# EAGLE library part BTM-182 (library SparkFun-RF)
Rayson BTM-182 Bluetooth Module The BTM-182 is an easy to use Bluetooth SPP (Serial Port Protocol) module, designed for transparent wireless serial connection setup. This is a fully qualified Bluetooth V2.0+EDR (Enhanced Data Rate) 3Mbps modulation with complete 2.4GHz radio transceiver. It uses CSR Bluecore 04 external single chip Bluetooth system with CMOS technology and with AFH (Adaptive Frequency Hopping). SparkFun Products: Bluetooth DIP Module - Rayson BTM-182 <https://www.sparkfun.com/products/retired/9977> (WRL-9977)
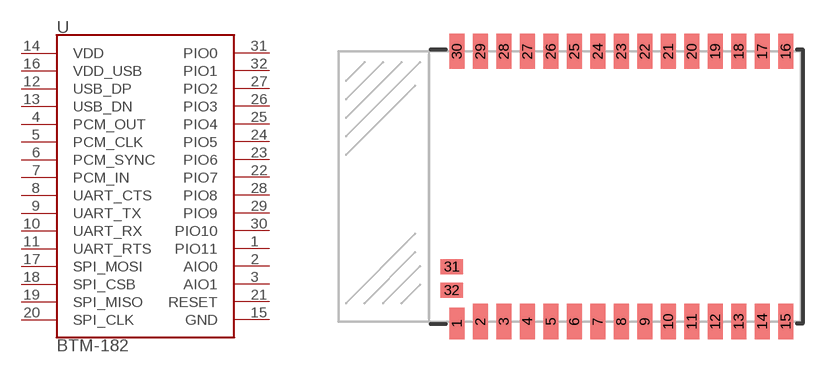
[diagram p20: symbol with the pads of BTM182; footprint BTM182]

Designator prefix U

## BTM-182_ (PROD_ID: IC-09842; SF_ID: WRL-09913)  [BTM182]
1  PIO11
2  AIO0
3  AIO1
4  PCM_OUT
5  PCM_CLK
6  PCM_SYNC
7  PCM_IN
8  UART_CTS
9  UART_TX
10  UART_RX
11  UART_RTS
12  USB_DP
13  USB_DN
14  VDD
15  GND
16  VDD_USB
17  SPI_MOSI
18  SPI_CSB
19  SPI_MISO
20  SPI_CLK
21  RESET
22  PIO7
23  PIO6
24  PIO5
25  PIO4
26  PIO3
27  PIO2
28  PIO8
29  PIO9
30  PIO10
31  PIO0
32  PIO1

## Footprint BTM182 (pad centres in mm)
Rayson BTM-182 Bluetooth Module BTM-182 Class2 Bluetooth Module from Rayson Datasheet <https://www.sparkfun.com/datasheets/Wireless/Bluetooth/BTM182.pdf>
smd 0.8 x 1.7: 1 -6.1,-7.4
smd 0.8 x 1.9: 2 -4.83,-7.3; 3 -3.56,-7.3; 4 -2.29,-7.3; 5 -1.02,-7.3; 6 0.25,-7.3; 7 1.52,-7.3; 8 2.79,-7.3; 9 4.06,-7.3; 10 5.33,-7.3; 11 6.6,-7.3; 12 7.87,-7.3; 13 9.14,-7.3; 14 10.41,-7.3; 15 11.68,-7.3; 16 11.68,7.3; 17 10.41,7.3; 18 9.14,7.3; 19 7.87,7.3; 20 6.6,7.3; 21 5.33,7.3; 22 4.06,7.3; 23 2.79,7.3; 24 1.52,7.3; 25 0.25,7.3; 26 -1.02,7.3; 27 -2.29,7.3; 28 -3.56,7.3; 29 -4.83,7.3; 30 -6.1,7.3
smd 1.2 x 0.8: 31 -6.38,-4.34; 32 -6.38,-5.61